# Altium footprint library D_1608.PcbLib: 1 footprints
Each footprint in its own frame and in the unit in brackets; x right, y up, seen from the top. Pads: shape width x height; smd on the part's side, far side on the other; paste and mask are expansions set on the pad; w line width, h text height; cw(c..) or ccw(c..) is an arc to the next point about the centre after c.
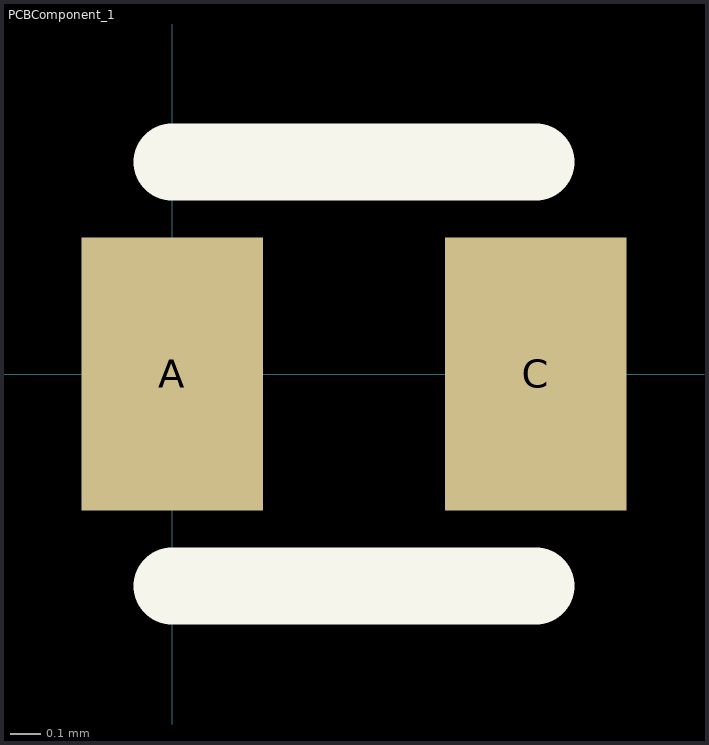
[diagram p0: the footprint, top view; thin cyan lines are the x and y axes]

## PCBComponent_1 [mm]
pads (2):
  rect 0.6x0.9 smd: A(0,0) C(1.2,0)
Top Overlay:
  lines w0.254: 0,-0.7 1.2,-0.7 ; 0,0.7 1.2,0.7
3D body: height 0.5, standoff 0, extent 0,-0.7 1.2,0.7